# Altium footprint library ZIP-23.PcbLib: 1 footprints
Each footprint in its own frame and in the unit in brackets; x right, y up, seen from the top. Pads: shape width x height; smd on the part's side, far side on the other; paste and mask are expansions set on the pad; w line width, h text height; cw(c..) or ccw(c..) is an arc to the next point about the centre after c.
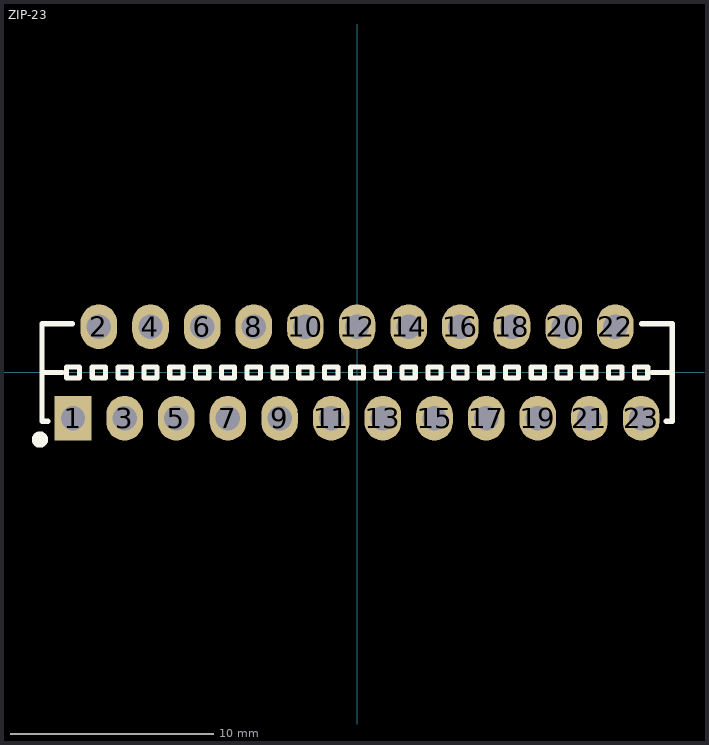
[diagram p0: the footprint, top view; thin cyan lines are the x and y axes]

## ZIP-23 [mm]
pads (23):
  rect 1.8x2.2 hole 1.2: 1(-13.97,-2.25)
  oval 1.8x2.2 hole 1.2: 2(-12.7,2.25) 3(-11.43,-2.25) 4(-10.16,2.25) 5(-8.89,-2.25) 6(-7.62,2.25) 7(-6.35,-2.25) 8(-5.08,2.25) 9(-3.81,-2.25) 10(-2.54,2.25) 11(-1.27,-2.25) 12(0,2.25) 13(1.27,-2.25) 14(2.54,2.25) 15(3.81,-2.25) 16(5.08,2.25) 17(6.35,-2.25) 18(7.62,2.25) 19(8.89,-2.25) 20(10.16,2.25) 21(11.43,-2.25) 22(12.7,2.25) 23(13.97,-2.25)
Top Overlay:
  circle w0.4: c-15.6,-3.3 r0.2
  lines w0.254: -15.5,0 -14.5,0 ; -15.2,-2.4 -15.5,-2.4 -15.5,2.4 -14,2.4 ; 14,2.4 15.5,2.4 15.5,-2.4 15.2,-2.4 ; 14.5,0 15.5,0 ; -14.295,-0.275 -14.295,0.275 -13.645,0.275 -13.645,-0.275 -14.295,-0.275 ; -13.025,-0.275 -12.375,-0.275 -12.375,0.275 -13.025,0.275 -13.025,-0.275 ; -11.755,-0.275 -11.755,0.275 -11.105,0.275 -11.105,-0.275 -11.755,-0.275 ; -10.485,-0.275 -9.835,-0.275 -9.835,0.275 -10.485,0.275 -10.485,-0.275 ; -9.215,-0.275 -9.215,0.275 -8.565,0.275 -8.565,-0.275 -9.215,-0.275 ; -7.945,-0.275 -7.295,-0.275 -7.295,0.275 -7.945,0.275 -7.945,-0.275 ; -6.675,-0.275 -6.675,0.275 -6.025,0.275 -6.025,-0.275 -6.675,-0.275 ; -5.405,-0.275 -4.755,-0.275 -4.755,0.275 -5.405,0.275 -5.405,-0.275 ; -4.135,-0.275 -4.135,0.275 -3.485,0.275 -3.485,-0.275 -4.135,-0.275 ; -2.865,-0.275 -2.215,-0.275 -2.215,0.275 -2.865,0.275 -2.865,-0.275 ; -1.595,-0.275 -0.945,-0.275 -0.945,0.275 -1.595,0.275 -1.595,-0.275 ; -0.325,-0.275 -0.325,0.275 0.325,0.275 0.325,-0.275 -0.325,-0.275 ; 0.945,-0.275 0.945,0.275 1.595,0.275 1.595,-0.275 0.945,-0.275 ; 2.215,-0.275 2.215,0.275 2.865,0.275 2.865,-0.275 2.215,-0.275 ; 3.485,-0.275 4.135,-0.275 4.135,0.275 3.485,0.275 3.485,-0.275 ; 4.755,-0.275 4.755,0.275 5.405,0.275 5.405,-0.275 4.755,-0.275 ; 6.025,-0.275 6.675,-0.275 6.675,0.275 6.025,0.275 6.025,-0.275 ; 7.295,-0.275 7.295,0.275 7.945,0.275 7.945,-0.275 7.295,-0.275 ; 8.565,-0.275 9.215,-0.275 9.215,0.275 8.565,0.275 8.565,-0.275 ; 9.835,-0.275 9.835,0.275 10.485,0.275 10.485,-0.275 9.835,-0.275 ; 11.105,-0.275 11.755,-0.275 11.755,0.275 11.105,0.275 11.105,-0.275 ; 12.375,-0.275 12.375,0.275 13.025,0.275 13.025,-0.275 12.375,-0.275 ; 13.645,-0.275 13.645,0.275 14.295,0.275 14.295,-0.275 13.645,-0.275